# Altium footprint library B12AP.PcbLib: 1 footprints
Each footprint in its own frame and in the unit in brackets; x right, y up, seen from the top. Pads: shape width x height; smd on the part's side, far side on the other; paste and mask are expansions set on the pad; w line width, h text height; cw(c..) or ccw(c..) is an arc to the next point about the centre after c.
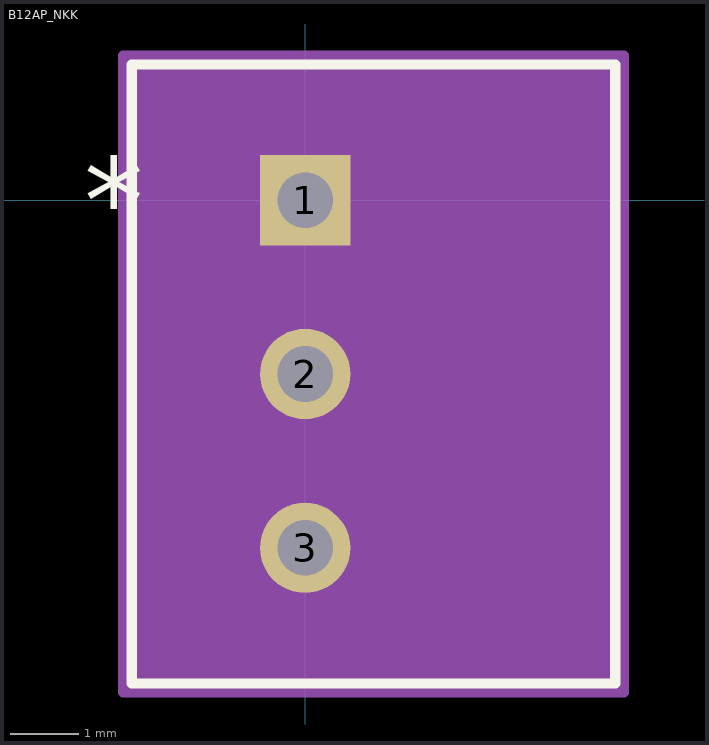
[diagram p0: the footprint, top view; thin cyan lines are the x and y axes]

## B12AP_NKK [mil]
pads (3):
  rect 52x52 / inner round 60 / far side rect 52x52 hole 32 paste-26 mask+0: 1(0,0)
  round 52 / inner round 60 / far side round 52 hole 32 paste-26 mask+0: 2(0,-100) 3(0,-200)
Top Overlay:
  lines w6: -99.63,-278 178.37,-278 178.37,78 -99.63,78 -99.63,-278
  text "*" at -127.13,-25 h50
Mechanical 13:
  region: 39.37,-100
  lines w1: 39.37,-100 39.37,-100 ; 39.37,-100 39.37,-100 ; 39.37,-100 39.37,-100 ; 39.37,-100 39.37,-100 ; -94.63,-273 173.37,-273 173.37,73 -94.63,73 -94.63,-273
  text "*" at -92.13,-25 h50
Mechanical 15:
  region: 183.37,-283 -104.63,-283 -104.63,83 183.37,83
  lines w6: -104.63,-283 183.37,-283 183.37,83 -104.63,83 -104.63,-283